# Altium schematic symbol library LDO_Analog_Devices_ADM7170ACPZ-2.5-R7_2.5V.SchLib: 1 symbol
Pins are listed as number, name and electrical type; pins without a type are passive.

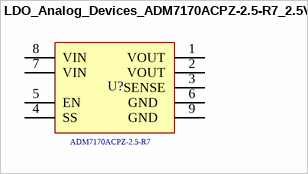
[diagram p0: symbol LDO_Analog_Devices_ADM7170ACPZ-2.5-R7_2.5V]

## LDO_Analog_Devices_ADM7170ACPZ-2.5-R7_2.5V
designator U?  Series: ADM7170ACPZ-2.5-R7  (hidden comment: LDO_Analog_Devices_ADM7170ACPZ-2.5-R7_2.5V)
LDO Voltage Regulators 0.5A Hi PSRR FT LDO 2.5V; Supplier Part Number 1: 584-ADM7170ACPZ2.5R7; Supplier 1: Mouser
footprint LDO_Analog_Devices_ADM7170ACPZ-2.5-R7_2.5V
pins: 1 VOUT (power) "Output Voltage.", 2 VOUT (power) "Output Voltage.", 3 SENSE (power) "Output Voltage.", 4 SS (power) "Input Voltage Connection.", 5 EN (power) "Input Voltage Connection.", 6 GND (power) "Ground.", 7 VIN (power) "Input Voltage Connection.", 8 VIN (power) "Input Voltage Connection.", 9 GND (power) "Ground."